# EAGLE library part SAMD51PXXA (library bats-n-gons)
SAMD51 P variant
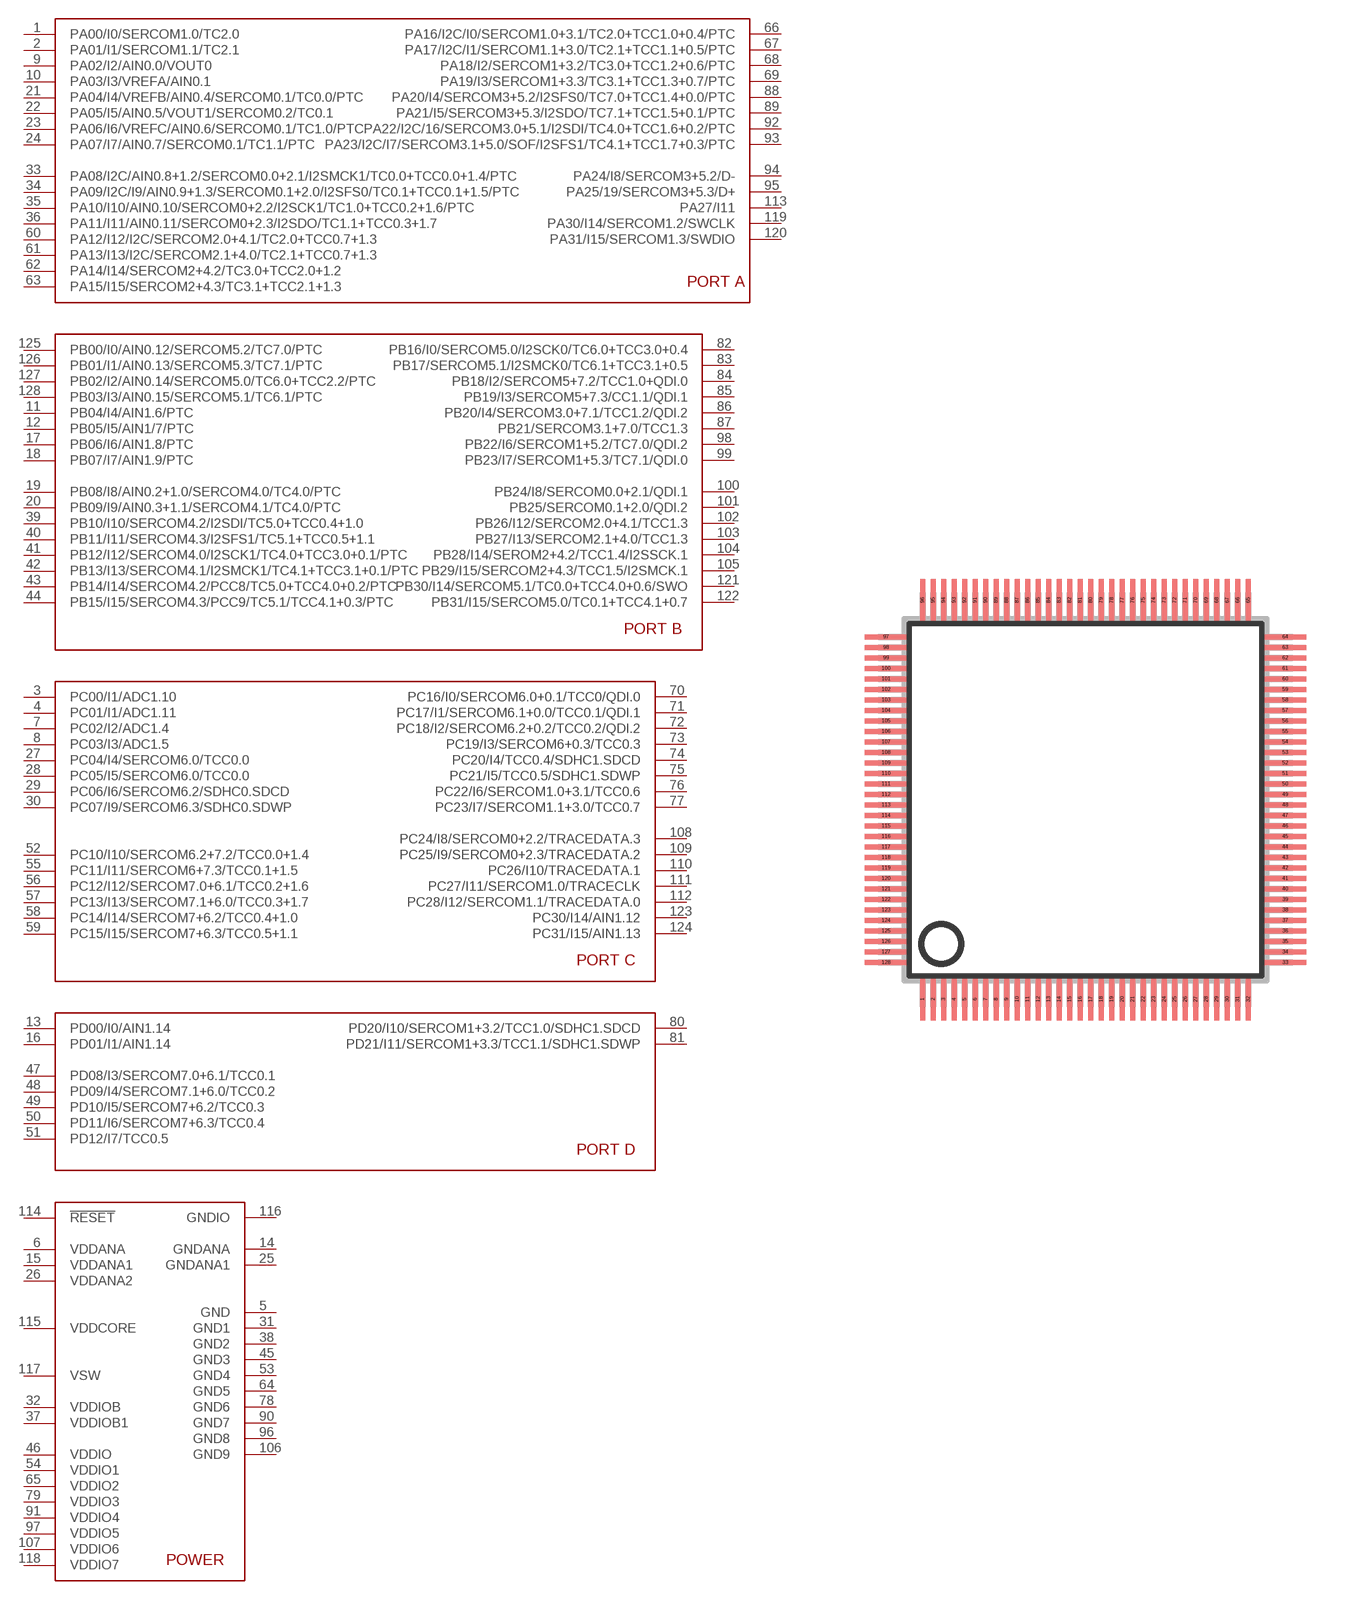
[diagram p0: symbol with the pads of SQFP-S-14X14-128; footprint SQFP-S-14X14-128]

Designator prefix -; gates G$1=SAMD51PXXA_PORTA G$2=SAMD51PXXA_PORTB G$3=SAMD51PXXA_PORTC G$4=SAMD51PXXA_PORTD G$5=SAMD51PXXA_PWR

## SAMD51PXXA  [SQFP-S-14X14-128]
1  G$1:PA00/I0/SERCOM1.0/TC2.0
2  G$1:PA01/I1/SERCOM1.1/TC2.1
3  G$3:PC00/I1/ADC1.10
4  G$3:PC01/I1/ADC1.11
5  G$5:GND
6  G$5:VDDANA
7  G$3:PC02/I2/ADC1.4
8  G$3:PC03/I3/ADC1.5
9  G$1:PA02/I2/AIN0.0/VOUT0
10  G$1:PA03/I3/VREFA/AIN0.1
11  G$2:PB04/I4/AIN1.6/PTC
12  G$2:PB05/I5/AIN1/7/PTC
13  G$4:PD00/I0/AIN1.14
14  G$5:GNDANA
15  G$5:VDDANA1
16  G$4:PD01/I1/AIN1.14
17  G$2:PB06/I6/AIN1.8/PTC
18  G$2:PB07/I7/AIN1.9/PTC
19  G$2:PB08/I8/AIN0.2+1.0/SERCOM4.0/TC4.0/PTC
20  G$2:PB09/I9/AIN0.3+1.1/SERCOM4.1/TC4.0/PTC
21  G$1:PA04/I4/VREFB/AIN0.4/SERCOM0.1/TC0.0/PTC
22  G$1:PA05/I5/AIN0.5/VOUT1/SERCOM0.2/TC0.1
23  G$1:PA06/I6/VREFC/AIN0.6/SERCOM0.1/TC1.0/PTC
24  G$1:PA07/I7/AIN0.7/SERCOM0.1/TC1.1/PTC
25  G$5:GNDANA1
26  G$5:VDDANA2
27  G$3:PC04/I4/SERCOM6.0/TCC0.0
28  G$3:PC05/I5/SERCOM6.0/TCC0.0
29  G$3:PC06/I6/SERCOM6.2/SDHC0.SDCD
30  G$3:PC07/I9/SERCOM6.3/SDHC0.SDWP
31  G$5:GND1
32  G$5:VDDIOB
33  G$1:PA08/I2C/AIN0.8+1.2/SERCOM0.0+2.1/I2SMCK1/TC0.0+TCC0.0+1.4/PTC
34  G$1:PA09/I2C/I9/AIN0.9+1.3/SERCOM0.1+2.0/I2SFS0/TC0.1+TCC0.1+1.5/PTC
35  G$1:PA10/I10/AIN0.10/SERCOM0+2.2/I2SCK1/TC1.0+TCC0.2+1.6/PTC
36  G$1:PA11/I11/AIN0.11/SERCOM0+2.3/I2SDO/TC1.1+TCC0.3+1.7
37  G$5:VDDIOB1
38  G$5:GND2
39  G$2:PB10/I10/SERCOM4.2/I2SDI/TC5.0+TCC0.4+1.0
40  G$2:PB11/I11/SERCOM4.3/I2SFS1/TC5.1+TCC0.5+1.1
41  G$2:PB12/I12/SERCOM4.0/I2SCK1/TC4.0+TCC3.0+0.1/PTC
42  G$2:PB13/I13/SERCOM4.1/I2SMCK1/TC4.1+TCC3.1+0.1/PTC
43  G$2:PB14/I14/SERCOM4.2/PCC8/TC5.0+TCC4.0+0.2/PTC
44  G$2:PB15/I15/SERCOM4.3/PCC9/TC5.1/TCC4.1+0.3/PTC
45  G$5:GND3
46  G$5:VDDIO
47  G$4:PD08/I3/SERCOM7.0+6.1/TCC0.1
48  G$4:PD09/I4/SERCOM7.1+6.0/TCC0.2
49  G$4:PD10/I5/SERCOM7+6.2/TCC0.3
50  G$4:PD11/I6/SERCOM7+6.3/TCC0.4
51  G$4:PD12/I7/TCC0.5
52  G$3:PC10/I10/SERCOM6.2+7.2/TCC0.0+1.4
53  G$5:GND4
54  G$5:VDDIO1
55  G$3:PC11/I11/SERCOM6+7.3/TCC0.1+1.5
56  G$3:PC12/I12/SERCOM7.0+6.1/TCC0.2+1.6
57  G$3:PC13/I13/SERCOM7.1+6.0/TCC0.3+1.7
58  G$3:PC14/I14/SERCOM7+6.2/TCC0.4+1.0
59  G$3:PC15/I15/SERCOM7+6.3/TCC0.5+1.1
60  G$1:PA12/I12/I2C/SERCOM2.0+4.1/TC2.0+TCC0.7+1.3
61  G$1:PA13/I13/I2C/SERCOM2.1+4.0/TC2.1+TCC0.7+1.3
62  G$1:PA14/I14/SERCOM2+4.2/TC3.0+TCC2.0+1.2
63  G$1:PA15/I15/SERCOM2+4.3/TC3.1+TCC2.1+1.3
64  G$5:GND5
65  G$5:VDDIO2
66  G$1:PA16/I2C/I0/SERCOM1.0+3.1/TC2.0+TCC1.0+0.4/PTC
67  G$1:PA17/I2C/I1/SERCOM1.1+3.0/TC2.1+TCC1.1+0.5/PTC
68  G$1:PA18/I2/SERCOM1+3.2/TC3.0+TCC1.2+0.6/PTC
69  G$1:PA19/I3/SERCOM1+3.3/TC3.1+TCC1.3+0.7/PTC
70  G$3:PC16/I0/SERCOM6.0+0.1/TCC0/QDI.0
71  G$3:PC17/I1/SERCOM6.1+0.0/TCC0.1/QDI.1
72  G$3:PC18/I2/SERCOM6.2+0.2/TCC0.2/QDI.2
73  G$3:PC19/I3/SERCOM6+0.3/TCC0.3
74  G$3:PC20/I4/TCC0.4/SDHC1.SDCD
75  G$3:PC21/I5/TCC0.5/SDHC1.SDWP
76  G$3:PC22/I6/SERCOM1.0+3.1/TCC0.6
77  G$3:PC23/I7/SERCOM1.1+3.0/TCC0.7
78  G$5:GND6
79  G$5:VDDIO3
80  G$4:PD20/I10/SERCOM1+3.2/TCC1.0/SDHC1.SDCD
81  G$4:PD21/I11/SERCOM1+3.3/TCC1.1/SDHC1.SDWP
82  G$2:PB16/I0/SERCOM5.0/I2SCK0/TC6.0+TCC3.0+0.4
83  G$2:PB17/SERCOM5.1/I2SMCK0/TC6.1+TCC3.1+0.5
84  G$2:PB18/I2/SERCOM5+7.2/TCC1.0+QDI.0
85  G$2:PB19/I3/SERCOM5+7.3/CC1.1/QDI.1
86  G$2:PB20/I4/SERCOM3.0+7.1/TCC1.2/QDI.2
87  G$2:PB21/SERCOM3.1+7.0/TCC1.3
88  G$1:PA20/I4/SERCOM3+5.2/I2SFS0/TC7.0+TCC1.4+0.0/PTC
89  G$1:PA21/I5/SERCOM3+5.3/I2SDO/TC7.1+TCC1.5+0.1/PTC
90  G$5:GND7
91  G$5:VDDIO4
92  G$1:PA22/I2C/16/SERCOM3.0+5.1/I2SDI/TC4.0+TCC1.6+0.2/PTC
93  G$1:PA23/I2C/I7/SERCOM3.1+5.0/SOF/I2SFS1/TC4.1+TCC1.7+0.3/PTC
94  G$1:PA24/I8/SERCOM3+5.2/D-
95  G$1:PA25/19/SERCOM3+5.3/D+
96  G$5:GND8
97  G$5:VDDIO5
98  G$2:PB22/I6/SERCOM1+5.2/TC7.0/QDI.2
99  G$2:PB23/I7/SERCOM1+5.3/TC7.1/QDI.0
100  G$2:PB24/I8/SERCOM0.0+2.1/QDI.1
101  G$2:PB25/SERCOM0.1+2.0/QDI.2
102  G$2:PB26/I12/SERCOM2.0+4.1/TCC1.3
103  G$2:PB27/I13/SERCOM2.1+4.0/TCC1.3
104  G$2:PB28/I14/SEROM2+4.2/TCC1.4/I2SSCK.1
105  G$2:PB29/I15/SERCOM2+4.3/TCC1.5/I2SMCK.1
106  G$5:GND9
107  G$5:VDDIO6
108  G$3:PC24/I8/SERCOM0+2.2/TRACEDATA.3
109  G$3:PC25/I9/SERCOM0+2.3/TRACEDATA.2
110  G$3:PC26/I10/TRACEDATA.1
111  G$3:PC27/I11/SERCOM1.0/TRACECLK
112  G$3:PC28/I12/SERCOM1.1/TRACEDATA.0
113  G$1:PA27/I11
114  G$5:!RESET
115  G$5:VDDCORE
116  G$5:GNDIO
117  G$5:VSW
118  G$5:VDDIO7
119  G$1:PA30/I14/SERCOM1.2/SWCLK
120  G$1:PA31/I15/SERCOM1.3/SWDIO
121  G$2:PB30/I14/SERCOM5.1/TC0.0+TCC4.0+0.6/SWO
122  G$2:PB31/I15/SERCOM5.0/TC0.1+TCC4.1+0.7
123  G$3:PC30/I14/AIN1.12
124  G$3:PC31/I15/AIN1.13
125  G$2:PB00/I0/AIN0.12/SERCOM5.2/TC7.0/PTC
126  G$2:PB01/I1/AIN0.13/SERCOM5.3/TC7.1/PTC
127  G$2:PB02/I2/AIN0.14/SERCOM5.0/TC6.0+TCC2.2/PTC
128  G$2:PB03/I3/AIN0.15/SERCOM5.1/TC6.1/PTC

## Footprint SQFP-S-14X14-128 (pad centres in mm)
QFP128 shrink quad flat pack, square
smd 0.2 x 1.6: 1 -6.2,-7.6; 2 -5.8,-7.6; 3 -5.4,-7.6; 4 -5,-7.6; 5 -4.6,-7.6; 6 -4.2,-7.6; 7 -3.8,-7.6; 8 -3.4,-7.6; 9 -3,-7.6; 10 -2.6,-7.6; 11 -2.2,-7.6; 12 -1.8,-7.6; 13 -1.4,-7.6; 14 -1,-7.6; 15 -0.6,-7.6; 16 -0.2,-7.6; 17 0.2,-7.6; 18 0.6,-7.6; 19 1,-7.6; 20 1.4,-7.6; 21 1.8,-7.6; 22 2.2,-7.6; 23 2.6,-7.6; 24 3,-7.6; 25 3.4,-7.6; 26 3.8,-7.6; 27 4.2,-7.6; 28 4.6,-7.6; 29 5,-7.6; 30 5.4,-7.6; 31 5.8,-7.6; 32 6.2,-7.6; 65 6.2,7.6; 66 5.8,7.6; 67 5.4,7.6; 68 5,7.6; 69 4.6,7.6; 70 4.2,7.6; 71 3.8,7.6; 72 3.4,7.6; 73 3,7.6; 74 2.6,7.6; 75 2.2,7.6; 76 1.8,7.6; 77 1.4,7.6; 78 1,7.6; 79 0.6,7.6; 80 0.2,7.6; 81 -0.2,7.6; 82 -0.6,7.6; 83 -1,7.6; 84 -1.4,7.6; 85 -1.8,7.6; 86 -2.2,7.6; 87 -2.6,7.6; 88 -3,7.6; 89 -3.4,7.6; 90 -3.8,7.6; 91 -4.2,7.6; 92 -4.6,7.6; 93 -5,7.6; 94 -5.4,7.6; 95 -5.8,7.6; 96 -6.2,7.6
smd 1.6 x 0.2: 33 7.6,-6.2; 34 7.6,-5.8; 35 7.6,-5.4; 36 7.6,-5; 37 7.6,-4.6; 38 7.6,-4.2; 39 7.6,-3.8; 40 7.6,-3.4; 41 7.6,-3; 42 7.6,-2.6; 43 7.6,-2.2; 44 7.6,-1.8; 45 7.6,-1.4; 46 7.6,-1; 47 7.6,-0.6; 48 7.6,-0.2; 49 7.6,0.2; 50 7.6,0.6; 51 7.6,1; 52 7.6,1.4; 53 7.6,1.8; 54 7.6,2.2; 55 7.6,2.6; 56 7.6,3; 57 7.6,3.4; 58 7.6,3.8; 59 7.6,4.2; 60 7.6,4.6; 61 7.6,5; 62 7.6,5.4; 63 7.6,5.8; 64 7.6,6.2; 97 -7.6,6.2; 98 -7.6,5.8; 99 -7.6,5.4; 100 -7.6,5; 101 -7.6,4.6; 102 -7.6,4.2; 103 -7.6,3.8; 104 -7.6,3.4; 105 -7.6,3; 106 -7.6,2.6; 107 -7.6,2.2; 108 -7.6,1.8; 109 -7.6,1.4; 110 -7.6,1; 111 -7.6,0.6; 112 -7.6,0.2; 113 -7.6,-0.2; 114 -7.6,-0.6; 115 -7.6,-1; 116 -7.6,-1.4; 117 -7.6,-1.8; 118 -7.6,-2.2; 119 -7.6,-2.6; 120 -7.6,-3; 121 -7.6,-3.4; 122 -7.6,-3.8; 123 -7.6,-4.2; 124 -7.6,-4.6; 125 -7.6,-5; 126 -7.6,-5.4; 127 -7.6,-5.8; 128 -7.6,-6.2